# Altium footprint library PcbLib1.PcbLib: 8 footprints
Each footprint in its own frame and in the unit in brackets; x right, y up, seen from the top. Pads: shape width x height; smd on the part's side, far side on the other; paste and mask are expansions set on the pad; w line width, h text height; cw(c..) or ccw(c..) is an arc to the next point about the centre after c.
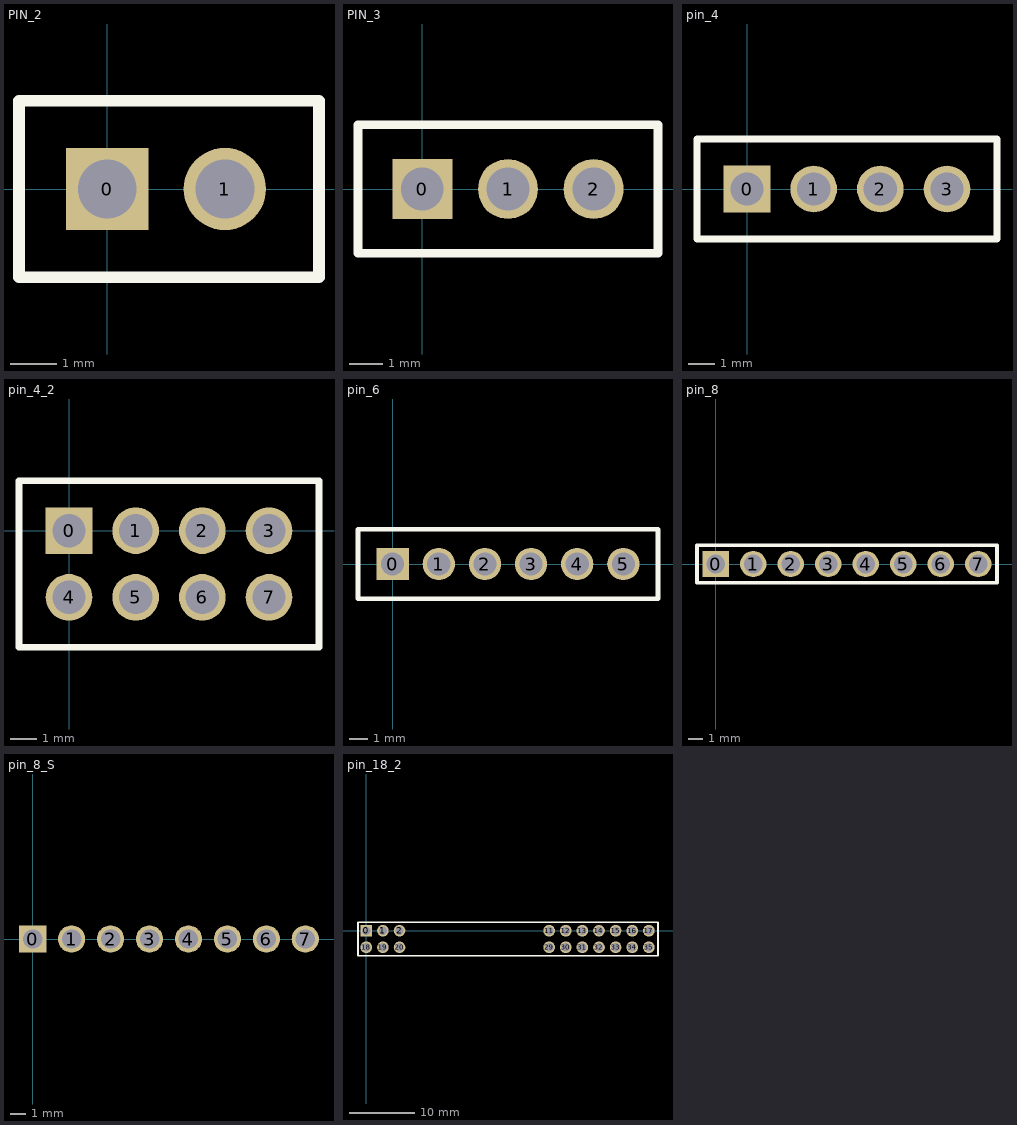
[diagram p0: the footprints below, top view; thin cyan lines are the x and y axes]

## PIN_2 [mil]
pads (2):
  rect 70x70 hole 50: 0(0,0)
  round 70 hole 50: 1(100,0)
Top Overlay:
  lines w10: -75,-75 -75,75 180,75 180,-75 -75,-75

## PIN_3 [mil]
pads (3):
  rect 70x70 hole 50: 0(0,0)
  round 70 hole 50: 1(100,0) 2(200,0)
Top Overlay:
  lines w10: -75,-75 275,-75 275,75 -75,75 -75,-75

## pin_4 [mil]
pads (4):
  rect 70x70 hole 50: 0(0,0)
  round 70 hole 50: 1(100,0) 2(200,0) 3(300,0)
Top Overlay:
  lines w10: -75,-75 375,-75 375,75 -75,75 -75,-75

## pin_4_2 [mil]
pads (8):
  rect 70x70 hole 50: 0(0,0)
  round 70 hole 50: 1(100,0) 2(200,0) 3(300,0) 4(0,-100) 5(100,-100) 6(200,-100) 7(300,-100)
Top Overlay:
  lines w10: -75,-175 -75,75 375,75 375,-175 -75,-175

## pin_6 [mil]
pads (6):
  rect 70x70 hole 50: 0(0,0)
  round 70 hole 50: 1(100,0) 2(200,0) 3(300,0) 4(400,0) 5(500,0)
Top Overlay:
  lines w10: -75,-75 575,-75 575,75 -75,75 -75,-75

## pin_8 [mil]
pads (8):
  rect 70x70 hole 50: 0(0,0)
  round 70 hole 50: 1(100,0) 2(200,0) 3(300,0) 4(400,0) 5(500,0) 6(600,0) 7(700,0)
Top Overlay:
  lines w10: -50,-50 -50,50 750,50 750,-50 -50,-50

## pin_8_S [mil]
pads (8):
  rect 70x70 hole 50: 0(0,0)
  round 70 hole 50: 1(100,0) 2(200,0) 3(300,0) 4(400,0) 5(500,0) 6(600,0) 7(700,0)

## pin_18_2 [mil]
pads (20):
  rect 70x70 hole 50: 0(0,0)
  round 70 hole 50: 1(100,0) 2(200,0) 11(1100,0) 12(1200,0) 13(1300,0) 14(1400,0) 15(1500,0) 16(1600,0) 17(1700,0) 18(0,-100) 19(100,-100) 20(200,-100) 29(1100,-100) 30(1200,-100) 31(1300,-100) 32(1400,-100) 33(1500,-100) 34(1600,-100) 35(1700,-100)
Top Overlay:
  lines w10: -50,-150 1755,-150 1755,50 -50,50 -50,-150